# Altium footprint library ssop.PcbLib: 17 footprints (part 1 of 2)
Each footprint in its own frame and in the unit in brackets; x right, y up, seen from the top. Pads: shape width x height; smd on the part's side, far side on the other; paste and mask are expansions set on the pad; w line width, h text height; cw(c..) or ccw(c..) is an arc to the next point about the centre after c.
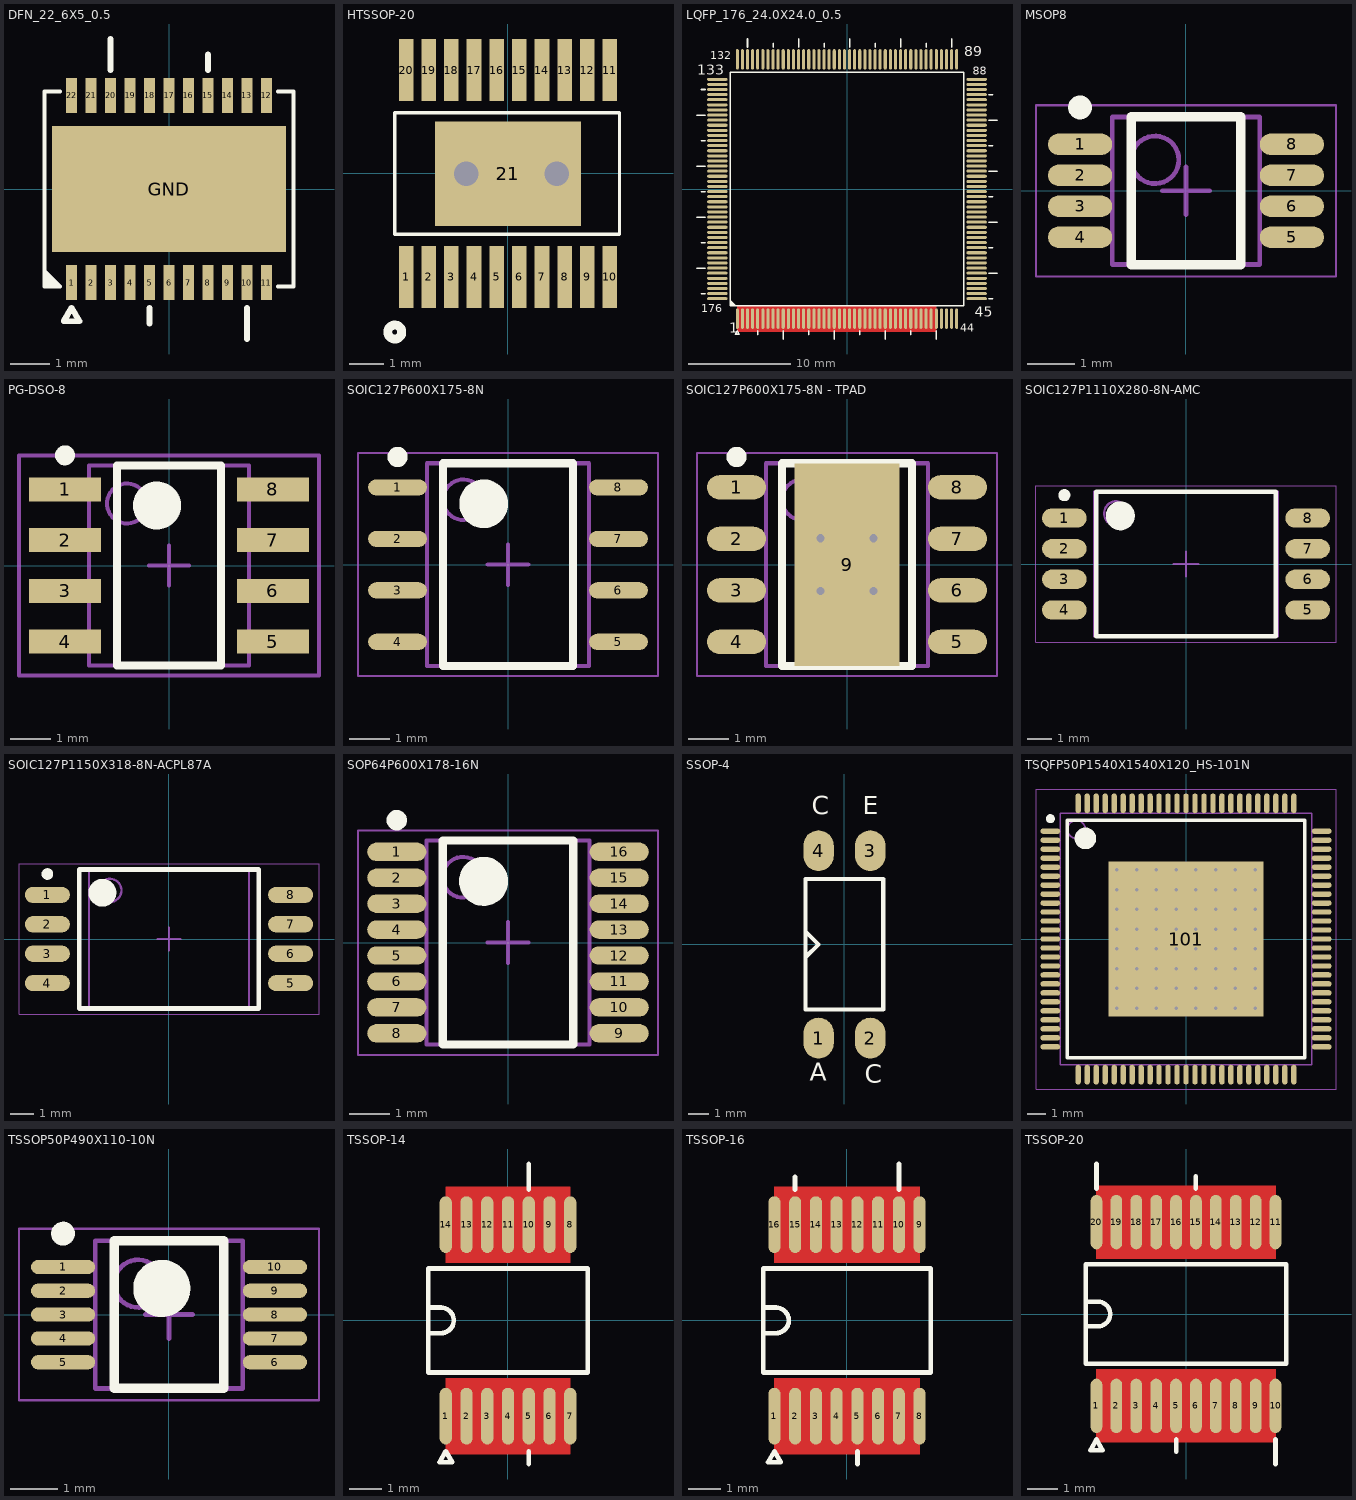
[diagram p0: the footprints below, top view; thin cyan lines are the x and y axes]

## DFN_22_6X5_0.5 [mm]
pads (23):
  rect 0.28x0.9 smd: 1(-2.5,-2.4) 2(-2,-2.4) 3(-1.5,-2.4) 4(-1,-2.4) 5(-0.5,-2.4) 6(0,-2.4) 7(0.5,-2.4) 8(1,-2.4) 9(1.5,-2.4) 10(2,-2.4) 11(2.5,-2.4) 12(2.5,2.4) 13(2,2.4) 14(1.5,2.4) 15(1,2.4) 16(0.5,2.4) 17(0,2.4) 18(-0.5,2.4) 19(-1,2.4) 20(-1.5,2.4) 21(-2,2.4) 22(-2.5,2.4)
  rect 6x3.24 smd: GND(0,0)
Top Overlay:
  region: -3.2,-2.1 -2.8,-2.5 -3.2,-2.5
  lines w0.1: -3.2,-2.1 -2.8,-2.5 -3.2,-2.5 -3.2,2.5 -2.8,2.5 ; 2.8,-2.5 3.2,-2.5 3.2,2.5 2.8,2.5
  lines w0.15: -1.5,3.05 -1.5,3.85 ; -0.5,-3.45 -0.5,-3.05 ; 1,3.05 1,3.45 ; 2,-3.85 2,-3.05 ; -2.7,-3.396 -2.3,-3.396 -2.5,-3.05 -2.7,-3.396
3D body: height 1.5, standoff 0, extent -3.048,-2.413 3.048,2.413

## HTSSOP-20 [mm] "HTSSOP, 0.65pitch, Body 6.5*4.4mm"
height 1
pads (21):
  rect 0.42x1.78 smd: 1(-2.925,-2.97) 2(-2.275,-2.97) 3(-1.625,-2.97) 4(-0.975,-2.97) 5(-0.325,-2.97) 6(0.325,-2.97) 7(0.975,-2.97) 8(1.625,-2.97) 9(2.275,-2.97) 10(2.925,-2.97) 11(2.925,2.97) 12(2.275,2.97) 13(1.625,2.97) 14(0.975,2.97) 15(0.325,2.97) 16(-0.325,2.97) 17(-0.975,2.97) 18(-1.625,2.97) 19(-2.275,2.965) 20(-2.925,2.97)
  rect 4.2x3 smd: 21(0,-0.005)
via -1.2,-0.005 diameter 1 hole 0.711
via 1.4,-0.005 diameter 1 hole 0.711
Top Overlay:
  circle w0.254: c-3.25,-4.55 r0.2
  lines w0.1: -3.25,-1.75 3.2,-1.75 3.2,1.75 -3.25,1.75 -3.25,-1.75
3D body "User Library-TSSOP-20-2.STEP": height 1.2, standoff 0, extent -3.25,-3.15 3.25,3.25

## LQFP_176_24.0X24.0_0.5 [mm]
pads (176):
  oval 0.3x2 smd: 1(-10.75,-12.7) 2(-10.25,-12.7) 3(-9.75,-12.7) 4(-9.25,-12.7) 5(-8.75,-12.7) 6(-8.25,-12.7) 7(-7.75,-12.7) 8(-7.25,-12.7) 9(-6.75,-12.7) 10(-6.25,-12.7) 11(-5.75,-12.7) 12(-5.25,-12.7) 13(-4.75,-12.7) 14(-4.25,-12.7) 15(-3.75,-12.7) 16(-3.25,-12.7) 17(-2.75,-12.7) 18(-2.25,-12.7) 19(-1.75,-12.7) 20(-1.25,-12.7) 21(-0.75,-12.7) 22(-0.25,-12.7) 23(0.25,-12.7) 24(0.75,-12.7) 25(1.25,-12.7) 26(1.75,-12.7) 27(2.25,-12.7) 28(2.75,-12.7) 29(3.25,-12.7) 30(3.75,-12.7) 31(4.25,-12.7) 32(4.75,-12.7) 33(5.25,-12.7) 34(5.75,-12.7) 35(6.25,-12.7) 36(6.75,-12.7) 37(7.25,-12.7) 38(7.75,-12.7) 39(8.25,-12.7) 40(8.75,-12.7) 41(9.25,-12.7) 42(9.75,-12.7) 43(10.25,-12.7) 44(10.75,-12.7) 89(10.75,12.7) 90(10.25,12.7) 91(9.75,12.7) 92(9.25,12.7) 93(8.75,12.7) 94(8.25,12.7) 95(7.75,12.7) 96(7.25,12.7) 97(6.75,12.7) 98(6.25,12.7) 99(5.75,12.7) 100(5.25,12.7) 101(4.75,12.7) 102(4.25,12.7) 103(3.75,12.7) 104(3.25,12.7) 105(2.75,12.7) 106(2.25,12.7) 107(1.75,12.7) 108(1.25,12.7) 109(0.75,12.7) 110(0.25,12.7) 111(-0.25,12.7) 112(-0.75,12.7) 113(-1.25,12.7) 114(-1.75,12.7) 115(-2.25,12.7) 116(-2.75,12.7) 117(-3.25,12.7) 118(-3.75,12.7) 119(-4.25,12.7) 120(-4.75,12.7) 121(-5.25,12.7) 122(-5.75,12.7) 123(-6.25,12.7) 124(-6.75,12.7) 125(-7.25,12.7) 126(-7.75,12.7) 127(-8.25,12.7) 128(-8.75,12.7) 129(-9.25,12.7) 130(-9.75,12.7) 131(-10.25,12.7) 132(-10.75,12.7)
  oval 2x0.3 smd: 45(12.7,-10.75) 46(12.7,-10.25) 47(12.7,-9.75) 48(12.7,-9.25) 49(12.7,-8.75) 50(12.7,-8.25) 51(12.7,-7.75) 52(12.7,-7.25) 53(12.7,-6.75) 54(12.7,-6.25) 55(12.7,-5.75) 56(12.7,-5.25) 57(12.7,-4.75) 58(12.7,-4.25) 59(12.7,-3.75) 60(12.7,-3.25) 61(12.7,-2.75) 62(12.7,-2.25) 63(12.7,-1.75) 64(12.7,-1.25) 65(12.7,-0.75) 66(12.7,-0.25) 67(12.7,0.25) 68(12.7,0.75) 69(12.7,1.25) 70(12.7,1.75) 71(12.7,2.25) 72(12.7,2.75) 73(12.7,3.25) 74(12.7,3.75) 75(12.7,4.25) 76(12.7,4.75) 77(12.7,5.25) 78(12.7,5.75) 79(12.7,6.25) 80(12.7,6.75) 81(12.7,7.25) 82(12.7,7.75) 83(12.7,8.25) 84(12.7,8.75) 85(12.7,9.25) 86(12.7,9.75) 87(12.7,10.25) 88(12.7,10.75) 133(-12.7,10.75) 134(-12.7,10.25) 135(-12.7,9.75) 136(-12.7,9.25) 137(-12.7,8.75) 138(-12.7,8.25) 139(-12.7,7.75) 140(-12.7,7.25) 141(-12.7,6.75) 142(-12.7,6.25) 143(-12.7,5.75) 144(-12.7,5.25) 145(-12.7,4.75) 146(-12.7,4.25) 147(-12.7,3.75) 148(-12.7,3.25) 149(-12.7,2.75) 150(-12.7,2.25) 151(-12.7,1.75) 152(-12.7,1.25) 153(-12.7,0.75) 154(-12.7,0.25) 155(-12.7,-0.25) 156(-12.7,-0.75) 157(-12.7,-1.25) 158(-12.7,-1.75) 159(-12.7,-2.25) 160(-12.7,-2.75) 161(-12.7,-3.25) 162(-12.7,-3.75) 163(-12.7,-4.25) 164(-12.7,-4.75) 165(-12.7,-5.25) 166(-12.7,-5.75) 167(-12.7,-6.25) 168(-12.7,-6.75) 169(-12.7,-7.25) 170(-12.7,-7.75) 171(-12.7,-8.25) 172(-12.7,-8.75) 173(-12.7,-9.25) 174(-12.7,-9.75) 175(-12.7,-10.25) 176(-12.7,-10.75)
Top Layer:
  pour cut-out: -10.75,-11.4 8.75,-11.4 8.75,-14 -10.75,-14
Top Overlay:
  region: -11.425,-10.925 -11.425,-11.425 -10.925,-11.425
  lines w0.15: -14.7,-7.75 -13.9,-7.75 ; -14.7,-2.75 -13.9,-2.75 ; -14.7,2.25 -13.9,2.25 ; -14.7,7.25 -13.9,7.25 ; -14.3,-10.25 -13.9,-10.25 ; -14.3,-5.25 -13.9,-5.25 ; -14.3,-0.25 -13.9,-0.25 ; -14.3,4.75 -13.9,4.75 ; -14.3,9.75 -13.9,9.75 ; -11.425,-10.925 -10.925,-11.425 ; -9.75,13.9 -9.75,14.7 ; -8.75,-14.3 -8.75,-13.9 ; -7.25,13.9 -7.25,14.3 ; -6.25,-14.7 -6.25,-13.9 ; -4.75,13.9 -4.75,14.7 ; -3.75,-14.3 -3.75,-13.9 ; -2.25,13.9 -2.25,14.3 ; -1.25,-14.7 -1.25,-13.9 ; 0.25,13.9 0.25,14.7 ; 1.25,-14.3 1.25,-13.9 ; 2.75,13.9 2.75,14.3 ; 3.75,-14.7 3.75,-13.9 ; 5.25,13.9 5.25,14.7 ; 6.25,-14.3 6.25,-13.9 ; 7.75,13.9 7.75,14.3 ; 8.75,-14.7 8.75,-13.9 ; 10.25,13.9 10.25,14.7 ; 13.9,-10.75 14.3,-10.75 ; 13.9,-8.25 14.7,-8.25 ; 13.9,-5.75 14.3,-5.75 ; 13.9,-3.25 14.7,-3.25 ; 13.9,-0.75 14.3,-0.75 ; 13.9,1.75 14.7,1.75 ; 13.9,4.25 14.3,4.25 ; 13.9,6.75 14.7,6.75 ; 13.9,9.25 14.3,9.25 ; -11.425,-11.425 11.425,-11.425 11.425,11.425 -11.425,11.425 -11.425,-11.425 ; -10.95,-14.246 -10.75,-13.9 -10.55,-14.246 -10.95,-14.246
  text "176" at -14.3,-12.1 h0.8
  text "133" at -14.7,11.2 h1
  text "132" at -13.4,12.7 h0.8
  text "89" at 11.5,13 h1
  text "88" at 12.3,11.2 h0.8
  text "45" at 12.5,-12.5 h1
  text "1" at -11.55,-14.1 h1
  text "44" at 11.1,-14 h0.8
3D body "PGF176.step": height 1.6, standoff 0, extent -13.106,-13.081 13.106,13.131

## MSOP8 [mm] "MSOP, 8-Leads, Body 3.00x3.00mm, Pitch 0.65mm, IPC Medium Density"
height 1.1
pads (8):
  oval 1.35x0.45 smd: 1(-2.225,0.975) 2(-2.225,0.325) 3(-2.225,-0.325) 4(-2.225,-0.975) 5(2.225,-0.975) 6(2.225,-0.325) 7(2.225,0.325) 8(2.225,0.975)
Top Overlay:
  circle w0.25: c-2.225,1.75 r0.125
  lines w0.2: -1.15,-1.55 1.15,-1.55 1.15,1.55 -1.15,1.55 -1.15,-1.55
Mechanical 13:
  circle w0.1: c-0.65,0.65 r0.5
  lines w0.1: -1.55,-1.55 1.55,-1.55 1.55,1.55 -1.55,1.55 -1.55,-1.55
Mechanical 15:
  lines w0.05: -3.15,-1.8 3.15,-1.8 3.15,1.8 -3.15,1.8 -3.15,-1.8
  lines w0.1: -0.5,0 0.5,0 ; 0,-0.5 0,0.5
3D body "MSOP8.step": height 1.1, standoff 0, extent -2.45,-1.55 2.45,1.55

## PG-DSO-8 [mm] "SOP, 8-Leads, Body 5,0x4,0mm (max), Pitch 1,27mm, IPC Medium Density"
height 1.75
pads (8):
  rect 1.8x0.6 smd mask+0: 1(-2.6,1.905) 2(-2.6,0.635) 3(-2.6,-0.635) 4(-2.6,-1.905) 5(2.6,-1.905) 6(2.6,-0.635) 7(2.6,0.635) 8(2.6,1.905)
Top Overlay:
  circle w0.25: c-2.6,2.755 r0.125
  circle w0.6: c-0.3,1.5 r0.3
  lines w0.2: -1.3,-2.5 -1.3,2.5 1.3,2.5 1.3,-2.5 -1.3,-2.5
Mechanical 13:
  circle w0.1: c-1.05,1.55 r0.5
  lines w0.1: -2,-2.5 -2,2.5 2,2.5 2,-2.5 -2,-2.5
Mechanical 15:
  lines w0.1: -0.5,0 0.5,0 ; 0,-0.5 0,0.5 ; -3.75,-2.75 -3.75,2.75 3.75,2.75 3.75,-2.75 -3.75,-2.75
  text ".DESIGNATOR" at -3.429,-2.413 h1
3D body: height 1.75, standoff 0.17, extent -2,-2.5 2,2.5

## SOIC127P600X175-8N [mm] "SOIC, 8-Leads, Body 4.90x3.90mm, Pitch 1.27mm, IPC Medium Density"
height 1.75
pads (8):
  oval 1.45x0.4 smd: 1(-2.725,1.905) 2(-2.725,0.635) 3(-2.725,-0.635) 4(-2.725,-1.905) 5(2.725,-1.905) 6(2.725,-0.635) 7(2.725,0.635) 8(2.725,1.905)
Top Overlay:
  circle w0.6: c-0.6,1.5 r0.3
  circle w0.25: c-2.725,2.655 r0.125
  lines w0.2: -1.6,-2.5 1.6,-2.5 1.6,2.5 -1.6,2.5 -1.6,-2.5
Mechanical 13:
  circle w0.1: c-1.1,1.6 r0.5
  lines w0.1: -2,-2.5 2,-2.5 2,2.5 -2,2.5 -2,-2.5
Mechanical 15:
  lines w0.05: -3.7,-2.75 3.7,-2.75 3.7,2.75 -3.7,2.75 -3.7,-2.75
  lines w0.1: -0.5,0 0.5,0 ; 0,-0.5 0,0.5
3D body "SOIC127P600X175-8N.step": height 1.75, standoff 0, extent -3,-2.5 3,2.5

## SOIC127P600X175-8N - TPAD [mm] "SOIC, 8-Leads, Body 4.90x3.90mm, Pitch 1.27mm, IPC Medium Density"
height 1.75
pads (9):
  oval 1.45x0.6 smd: 1(-2.725,1.905) 2(-2.725,0.635) 3(-2.725,-0.635) 4(-2.725,-1.905) 5(2.725,-1.905) 6(2.725,-0.635) 7(2.725,0.635) 8(2.725,1.905)
  rect 2.6x5 smd: 9(0,0)
via -0.65,0.65 diameter 0.5 hole 0.2
via 0.65,0.65 diameter 0.5 hole 0.2
via -0.65,-0.65 diameter 0.5 hole 0.2
via 0.65,-0.65 diameter 0.5 hole 0.2
Top Overlay:
  circle w0.25: c-2.725,2.655 r0.125
  lines w0.2: -1.6,-2.5 1.6,-2.5 1.6,2.5 -1.6,2.5 -1.6,-2.5
Mechanical 13:
  circle w0.1: c-1.1,1.6 r0.5
  lines w0.1: -2,-2.5 2,-2.5 2,2.5 -2,2.5 -2,-2.5
Mechanical 15:
  lines w0.05: -3.7,-2.75 3.7,-2.75 3.7,2.75 -3.7,2.75 -3.7,-2.75
  lines w0.1: -0.5,0 0.5,0 ; 0,-0.5 0,0.5
3D body "SOIC127P600X175-8N.step": height 1.75, standoff 0, extent -3,-2.5 3,2.5

## SOIC127P1110X280-8N-AMC [mm] "SOIC, 8-Leads, Body 5.85x7.50mm, Pitch 1.27mm, IPC Medium Density"
height 2.8
pads (8):
  oval 1.85x0.8 smd: 1(-5.05,1.905) 2(-5.05,0.635) 3(-5.05,-0.635) 4(-5.05,-1.905) 5(5.05,-1.905) 6(5.05,-0.635) 7(5.05,0.635) 8(5.05,1.905)
Top Overlay:
  circle w0.6: c-2.725,2 r0.3
  circle w0.25: c-5.05,2.855 r0.125
  lines w0.2: -3.725,-3 3.725,-3 3.725,3 -3.725,3 -3.725,-3
Mechanical 13:
  circle w0.1: c-2.9,2.1 r0.5
  lines w0.1: -3.8,-3 3.8,-3 3.8,3 -3.8,3 -3.8,-3
Mechanical 15:
  lines w0.05: -6.225,-3.25 6.225,-3.25 6.225,3.25 -6.225,3.25 -6.225,-3.25
  lines w0.1: -0.5,0 0.5,0 ; 0,-0.5 0,0.5
3D body "SOIC127P1110X280-8N.step": height 2.8, standoff 0, extent -5.55,-3 5.55,3

## SOIC127P1150X318-8N-ACPL87A [mm] "SOIC, 8-Leads, Body 5.85x6.85mm, Pitch 1.27mm, IPC Medium Density"
height 3.18
pads (8):
  oval 1.95x0.7 smd: 1(-5.25,1.905) 2(-5.25,0.635) 3(-5.25,-0.635) 4(-5.25,-1.905) 5(5.25,-1.905) 6(5.25,-0.635) 7(5.25,0.635) 8(5.25,1.905)
Top Overlay:
  circle w0.25: c-5.25,2.805 r0.125
  circle w0.6: c-2.875,2 r0.3
  lines w0.2: -3.875,-3 -3.875,3 3.875,3 3.875,-3 -3.875,-3
Mechanical 13:
  circle w0.1: c-2.55,2.1 r0.5
  lines w0.1: -3.45,-3 -3.45,3 3.45,3 3.45,-3 -3.45,-3
Mechanical 15:
  lines w0.05: -6.475,-3.25 -6.475,3.25 6.475,3.25 6.475,-3.25 -6.475,-3.25
  lines w0.1: -0.5,0 0.5,0 ; 0,-0.5 0,0.5
3D body "SOIC127P1150X318-8N-ACPL87A.step": height 3.18, standoff 0, extent -5.75,-3 5.75,3

## SOP64P600X178-16N [mm] "SOP, 16-Leads, Body 4.90x3.89mm, Pitch 0.635mm, IPC Medium Density"
height 1.78
pads (16):
  oval 1.45x0.45 smd: 1(-2.725,2.222) 2(-2.725,1.587) 3(-2.725,0.953) 4(-2.725,0.318) 5(-2.725,-0.318) 6(-2.725,-0.953) 7(-2.725,-1.587) 8(-2.725,-2.222) 9(2.725,-2.222) 10(2.725,-1.587) 11(2.725,-0.953) 12(2.725,-0.318) 13(2.725,0.318) 14(2.725,0.953) 15(2.725,1.587) 16(2.725,2.222)
Top Overlay:
  circle w0.6: c-0.6,1.5 r0.3
  circle w0.25: c-2.725,2.997 r0.125
  lines w0.2: -1.6,-2.5 1.6,-2.5 1.6,2.5 -1.6,2.5 -1.6,-2.5
Mechanical 13:
  circle w0.1: c-1.1,1.6 r0.5
  lines w0.1: -2,-2.5 2,-2.5 2,2.5 -2,2.5 -2,-2.5
Mechanical 15:
  lines w0.05: -3.675,-2.75 3.675,-2.75 3.675,2.75 -3.675,2.75 -3.675,-2.75
  lines w0.1: -0.5,0 0.5,0 ; 0,-0.5 0,0.5
3D body "SOP64P600X178-16N.step": height 1.78, standoff 0, extent -3,-2.5 3,2.5

## SSOP-4 [mm] "pitch-1.27mm"
height 3.85
pads (4):
  oval 1.5x2 smd: 1(-1.27,-4.6) 2(1.27,-4.6) 3(1.27,4.6) 4(-1.27,4.6)
Top Overlay:
  lines w0.203: -1.905,-0.635 -1.27,0 -1.905,0.635 ; -1.905,-3.2 1.905,-3.2 1.905,3.2 -1.905,3.2 -1.905,-3.2
  text "A" at -1.7,-7 h1.52
  text "C" at 1,-7.1 h1.52
  text "E" at 0.9,6.1 h1.52
  text "C" at -1.6,6.1 h1.52
3D body "TLP521-2.STEP": height 3.72, standoff -0.03, extent -2.29,-4.188 2.29,4.389

## TSQFP50P1540X1540X120_HS-101N [mm] "TSQFP, 100-Leads, Body 14.00x14.00mm, Pitch 0.50mm, Thermal Pad 8.64x8.64mm, IPC Medium Density"
height 1.2
pads (101):
  oval 1.1x0.3 smd: 1(-7.55,6) 2(-7.55,5.5) 3(-7.55,5) 4(-7.55,4.5) 5(-7.55,4) 6(-7.55,3.5) 7(-7.55,3) 8(-7.55,2.5) 9(-7.55,2) 10(-7.55,1.5) 11(-7.55,1) 12(-7.55,0.5) 13(-7.55,0) 14(-7.55,-0.5) 15(-7.55,-1) 16(-7.55,-1.5) 17(-7.55,-2) 18(-7.55,-2.5) 19(-7.55,-3) 20(-7.55,-3.5) 21(-7.55,-4) 22(-7.55,-4.5) 23(-7.55,-5) 24(-7.55,-5.5) 25(-7.55,-6) 51(7.55,-6) 52(7.55,-5.5) 53(7.55,-5) 54(7.55,-4.5) 55(7.55,-4) 56(7.55,-3.5) 57(7.55,-3) 58(7.55,-2.5) 59(7.55,-2) 60(7.55,-1.5) 61(7.55,-1) 62(7.55,-0.5) 63(7.55,0) 64(7.55,0.5) 65(7.55,1) 66(7.55,1.5) 67(7.55,2) 68(7.55,2.5) 69(7.55,3) 70(7.55,3.5) 71(7.55,4) 72(7.55,4.5) 73(7.55,5) 74(7.55,5.5) 75(7.55,6)
  oval 0.3x1.1 smd: 26(-6,-7.55) 27(-5.5,-7.55) 28(-5,-7.55) 29(-4.5,-7.55) 30(-4,-7.55) 31(-3.5,-7.55) 32(-3,-7.55) 33(-2.5,-7.55) 34(-2,-7.55) 35(-1.5,-7.55) 36(-1,-7.55) 37(-0.5,-7.55) 38(0,-7.55) 39(0.5,-7.55) 40(1,-7.55) 41(1.5,-7.55) 42(2,-7.55) 43(2.5,-7.55) 44(3,-7.55) 45(3.5,-7.55) 46(4,-7.55) 47(4.5,-7.55) 48(5,-7.55) 49(5.5,-7.55) 50(6,-7.55) 76(6,7.55) 77(5.5,7.55) 78(5,7.55) 79(4.5,7.55) 80(4,7.55) 81(3.5,7.55) 82(3,7.55) 83(2.5,7.55) 84(2,7.55) 85(1.5,7.55) 86(1,7.55) 87(0.5,7.55) 88(0,7.55) 89(-0.5,7.55) 90(-1,7.55) 91(-1.5,7.55) 92(-2,7.55) 93(-2.5,7.55) 94(-3,7.55) 95(-3.5,7.55) 96(-4,7.55) 97(-4.5,7.55) 98(-5,7.55) 99(-5.5,7.55) 100(-6,7.55)
  rect 8.64x8.64 smd: 101(0,0)
via 3.85,-3.85 diameter 0.5 hole 0.2
via 2.75,-3.85 diameter 0.5 hole 0.2
via 1.65,-3.85 diameter 0.5 hole 0.2
via 0.55,-3.85 diameter 0.5 hole 0.2
via -0.55,-3.85 diameter 0.5 hole 0.2
via -1.65,-3.85 diameter 0.5 hole 0.2
via -2.75,-3.85 diameter 0.5 hole 0.2
via -3.85,-3.85 diameter 0.5 hole 0.2
via 3.85,-2.75 diameter 0.5 hole 0.2
via 2.75,-2.75 diameter 0.5 hole 0.2
via 1.65,-2.75 diameter 0.5 hole 0.2
via 0.55,-2.75 diameter 0.5 hole 0.2
via -0.55,-2.75 diameter 0.5 hole 0.2
via -1.65,-2.75 diameter 0.5 hole 0.2
via -2.75,-2.75 diameter 0.5 hole 0.2
via -3.85,-2.75 diameter 0.5 hole 0.2
via 3.85,-1.65 diameter 0.5 hole 0.2
via 2.75,-1.65 diameter 0.5 hole 0.2
via 1.65,-1.65 diameter 0.5 hole 0.2
via 0.55,-1.65 diameter 0.5 hole 0.2
via -0.55,-1.65 diameter 0.5 hole 0.2
via -1.65,-1.65 diameter 0.5 hole 0.2
via -2.75,-1.65 diameter 0.5 hole 0.2
via -3.85,-1.65 diameter 0.5 hole 0.2
via 3.85,-0.55 diameter 0.5 hole 0.2
via 2.75,-0.55 diameter 0.5 hole 0.2
via 1.65,-0.55 diameter 0.5 hole 0.2
via 0.55,-0.55 diameter 0.5 hole 0.2
via -0.55,-0.55 diameter 0.5 hole 0.2
via -1.65,-0.55 diameter 0.5 hole 0.2
via -2.75,-0.55 diameter 0.5 hole 0.2
via -3.85,-0.55 diameter 0.5 hole 0.2
via 3.85,0.55 diameter 0.5 hole 0.2
via 2.75,0.55 diameter 0.5 hole 0.2
via 1.65,0.55 diameter 0.5 hole 0.2
via 0.55,0.55 diameter 0.5 hole 0.2
via -0.55,0.55 diameter 0.5 hole 0.2
via -1.65,0.55 diameter 0.5 hole 0.2
via -2.75,0.55 diameter 0.5 hole 0.2
via -3.85,0.55 diameter 0.5 hole 0.2
via 3.85,1.65 diameter 0.5 hole 0.2
via 2.75,1.65 diameter 0.5 hole 0.2
via 1.65,1.65 diameter 0.5 hole 0.2
via 0.55,1.65 diameter 0.5 hole 0.2
via -0.55,1.65 diameter 0.5 hole 0.2
via -1.65,1.65 diameter 0.5 hole 0.2
via -2.75,1.65 diameter 0.5 hole 0.2
via -3.85,1.65 diameter 0.5 hole 0.2
via 3.85,2.75 diameter 0.5 hole 0.2
via 2.75,2.75 diameter 0.5 hole 0.2
via 1.65,2.75 diameter 0.5 hole 0.2
via 0.55,2.75 diameter 0.5 hole 0.2
via -0.55,2.75 diameter 0.5 hole 0.2
via -1.65,2.75 diameter 0.5 hole 0.2
via -2.75,2.75 diameter 0.5 hole 0.2
via -3.85,2.75 diameter 0.5 hole 0.2
via 3.85,3.85 diameter 0.5 hole 0.2
via 2.75,3.85 diameter 0.5 hole 0.2
via 1.65,3.85 diameter 0.5 hole 0.2
via 0.55,3.85 diameter 0.5 hole 0.2
via -0.55,3.85 diameter 0.5 hole 0.2
via -1.65,3.85 diameter 0.5 hole 0.2
via -2.75,3.85 diameter 0.5 hole 0.2
via -3.85,3.85 diameter 0.5 hole 0.2
Top Overlay:
  circle w0.6: c-5.6,5.6 r0.3
  circle w0.25: c-7.55,6.7 r0.125
  lines w0.2: -6.6,-6.6 6.6,-6.6 6.6,6.6 -6.6,6.6 -6.6,-6.6
Mechanical 13:
  circle w0.1: c-6.1,6.1 r0.5
  lines w0.1: -7,-7 7,-7 7,7 -7,7 -7,-7
Mechanical 15:
  lines w0.05: -8.35,-8.35 8.35,-8.35 8.35,8.35 -8.35,8.35 -8.35,-8.35
  lines w0.1: -0.5,0 0.5,0 ; 0,-0.5 0,0.5
3D body "TSQFP50P1540X1540X120_HS-101N.step": height 1.2, standoff 0, extent -7.7,-7.7 7.7,7.7

## TSSOP50P490X110-10N [mm] "TSSOP, 10-Leads, Body 3.00x3.00mm, Pitch 0.50mm, IPC Medium Density"
height 1.1
pads (10):
  oval 1.35x0.3 smd: 1(-2.225,1) 2(-2.225,0.5) 3(-2.225,0) 4(-2.225,-0.5) 5(-2.225,-1) 6(2.225,-1) 7(2.225,-0.5) 8(2.225,0) 9(2.225,0.5) 10(2.225,1)
Top Overlay:
  circle w0.6: c-0.15,0.55 r0.3
  circle w0.25: c-2.225,1.7 r0.125
  lines w0.2: -1.15,-1.55 1.15,-1.55 1.15,1.55 -1.15,1.55 -1.15,-1.55
Mechanical 13:
  circle w0.1: c-0.65,0.65 r0.5
  lines w0.1: -1.55,-1.55 1.55,-1.55 1.55,1.55 -1.55,1.55 -1.55,-1.55
Mechanical 15:
  lines w0.05: -3.15,-1.8 3.15,-1.8 3.15,1.8 -3.15,1.8 -3.15,-1.8
  lines w0.1: -0.5,0 0.5,0 ; 0,-0.5 0,0.5
3D body "TSSOP50P490X110-10N.step": height 1.1, standoff 0, extent -2.45,-1.55 2.45,1.55

## TSSOP-14 [mil]
height 234.65
pads (14):
  oval 15x70 smd: 1(-76.77,-118.11) 2(-51.18,-118.11) 3(-25.59,-118.11) 4(0,-118.11) 5(25.59,-118.11) 6(51.18,-118.11) 7(76.77,-118.11) 8(76.77,118.11) 9(51.18,118.11) 10(25.59,118.11) 11(0,118.11) 12(-25.59,118.11) 13(-51.18,118.11) 14(-76.77,118.11)
Top Layer:
  pour cut-out: -76.77,-71.3 76.77,-71.3 76.77,-164.92 -76.77,-164.92
  pour cut-out: -76.77,164.92 76.77,164.92 76.77,71.3 -76.77,71.3
Top Overlay:
  lines w5.91: -98.43,-15.75 -82.68,-15.75 ccw(c-82.68,0) -82.68,15.75 -98.43,15.75 ; 25.59,-177.17 25.59,-161.42 ; 25.59,161.42 25.59,192.91 ; -98.43,-64.17 98.43,-64.17 98.43,64.17 -98.43,64.17 -98.43,-64.17 ; -84.65,-175.06 -76.77,-161.42 -68.9,-175.06 -84.65,-175.06
3D body "TSSOP-14-Yale.STEP": height 38.62, standoff -0.77, extent -98.42,-126.19 98.43,126.2

## TSSOP-16 [mm]
height 5.96
pads (16):
  oval 0.381x1.778 smd: 1(-2.275,-3) 2(-1.625,-3) 3(-0.975,-3) 4(-0.325,-3) 5(0.325,-3) 6(0.975,-3) 7(1.625,-3) 8(2.275,-3) 9(2.275,3) 10(1.625,3) 11(0.975,3) 12(0.325,3) 13(-0.325,3) 14(-0.975,3) 15(-1.625,3) 16(-2.275,3)
Top Layer:
  pour cut-out: -2.275,-1.811 2.275,-1.811 2.275,-4.189 -2.275,-4.189
  pour cut-out: -2.275,4.189 2.275,4.189 2.275,1.811 -2.275,1.811
Top Overlay:
  lines w0.15: -2.625,-0.4 -2.225,-0.4 ccw(c-2.225,0) -2.225,0.4 -2.625,0.4 ; -1.625,4.1 -1.625,4.5 ; 0.325,-4.5 0.325,-4.1 ; 1.625,4.1 1.625,4.9 ; -2.625,-1.63 2.625,-1.63 2.625,1.63 -2.625,1.63 -2.625,-1.63 ; -2.475,-4.446 -2.075,-4.446 -2.275,-4.1 -2.475,-4.446
3D body "TSSOP-16-Yale.STEP": height 0.98, standoff -0.02, extent -2.5,-3.205 2.5,3.205

## TSSOP-20 [mm]
height 5.96
pads (20):
  oval 0.381x1.778 smd: 1(-2.925,-3) 2(-2.275,-3) 3(-1.625,-3) 4(-0.975,-3) 5(-0.325,-3) 6(0.325,-3) 7(0.975,-3) 8(1.625,-3) 9(2.275,-3) 10(2.925,-3) 11(2.925,3) 12(2.275,3) 13(1.625,3) 14(0.975,3) 15(0.325,3) 16(-0.325,3) 17(-0.975,3) 18(-1.625,3) 19(-2.275,3) 20(-2.925,3)
Top Layer:
  pour cut-out: -2.925,-1.811 2.925,-1.811 2.925,-4.189 -2.925,-4.189
  pour cut-out: -2.925,4.189 2.925,4.189 2.925,1.811 -2.925,1.811
Top Overlay:
  lines w0.15: -3.275,-0.4 -2.875,-0.4 ccw(c-2.875,0) -2.875,0.4 -3.275,0.4 ; -2.925,4.1 -2.925,4.9 ; -0.325,-4.5 -0.325,-4.1 ; 0.325,4.1 0.325,4.5 ; 2.925,-4.9 2.925,-4.1 ; -3.275,-1.63 -3.275,1.63 3.275,1.63 3.275,-1.63 -3.275,-1.63 ; -3.125,-4.446 -2.925,-4.1 -2.725,-4.446 -3.125,-4.446
3D body "TSSOP-20-Yale.STEP": height 0.98, standoff -0.02, extent -3.25,-3.205 3.25,3.205